# Altium footprint library CAP_CAN_C_5MM_SMT.PcbLib: 1 footprints
Each footprint in its own frame and in the unit in brackets; x right, y up, seen from the top. Pads: shape width x height; smd on the part's side, far side on the other; paste and mask are expansions set on the pad; w line width, h text height; cw(c..) or ccw(c..) is an arc to the next point about the centre after c.
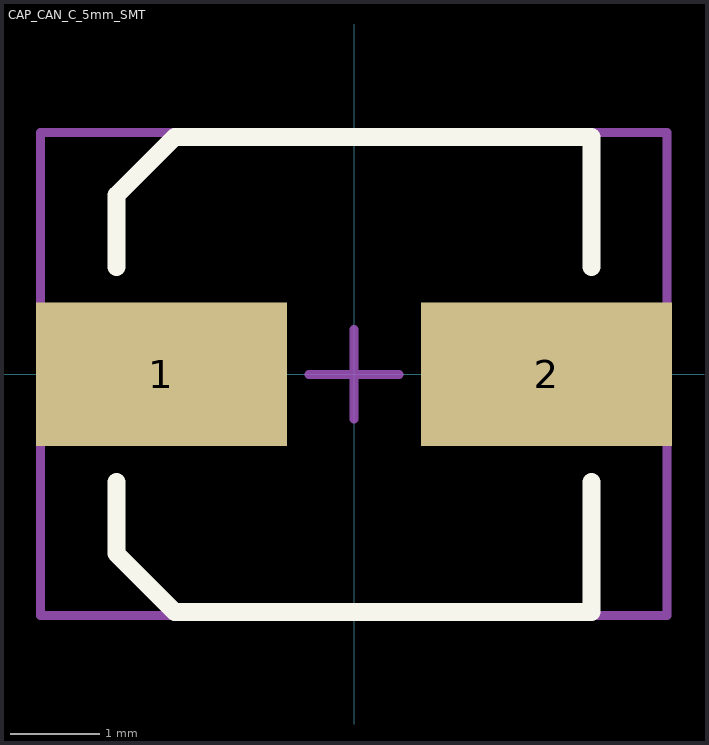
[diagram p0: the footprint, top view; thin cyan lines are the x and y axes]

## CAP_CAN_C_5mm_SMT [mm] "CAP SMT CAN D 5MM dia x 5.4MM height"
height 5.4
pads (2):
  rect 2.8x1.6 smd mask+0.102: 1(-2.15,0) 2(2.15,0)
Top Overlay:
  lines w0.2: -2.65,-1.2 -2.65,-2 -2,-2.65 -1.54,-2.65 2.65,-2.65 2.65,-1.2 ; -2.65,1.2 -2.65,2 -2,2.65 2.65,2.65 2.65,1.2
Part Outline:
  lines w0.1: -0.5,0 0.5,0 ; 0,-0.5 0,0.5 ; -3.5,-2.69 3.49,-2.69 3.49,2.7 -3.5,2.7 -3.5,-2.69
3D body: height 5.5, standoff 0.1, extent -2.495,-2.48 2.495,2.5